# EAGLE library part AUDIO-TDA7439 (library Namenlos)
edit this description Auto generated by make-symbol-device-package-bsdl.ulp Rev. 44 Source:
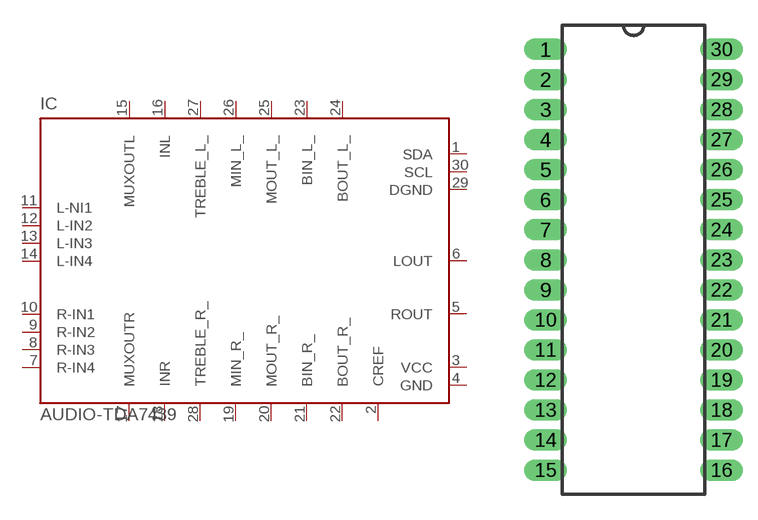
[diagram p14: symbol with the pads of SDIP30; footprint SDIP30]

Designator prefix IC

## AUDIO-TDA7439  [SDIP30]
1  SDA
2  CREF  sup
3  VCC  pwr
4  GND  pwr
5  ROUT  out
6  LOUT  out
7  R-IN4  in
8  R-IN3  in
9  R-IN2  in
10  R-IN1  in
11  L-NI1  in
12  L-IN2  in
13  L-IN3  in
14  L-IN4  in
15  MUXOUTL  out
16  INL  in
17  MUXOUTR  out
18  INR  in
19  MIN_R_  in
20  MOUT_R_  out
21  BIN_R_  in
22  BOUT_R_  out
23  BIN_L_  in
24  BOUT_L_  out
25  MOUT_L_  out
26  MIN_L_  in
27  TREBLE_L_  out
28  TREBLE_R_  out
29  DGND  sup
30  SCL

## Footprint SDIP30 (pad centres in mm)
SDIP30 Auto generated by make-symbol-device-package-bsdl.ulp Rev. 44
drill 0.5 pad 1.27 long: 1 -5.2,12.446; 2 -5.2,10.668; 3 -5.2,8.89; 4 -5.2,7.112; 5 -5.2,5.334; 6 -5.2,3.556; 7 -5.2,1.778; 8 -5.2,0; 9 -5.2,-1.778; 10 -5.2,-3.556; 11 -5.2,-5.334; 12 -5.2,-7.112; 13 -5.2,-8.89; 14 -5.2,-10.668; 15 -5.2,-12.446; 16 5.2,-12.446; 17 5.2,-10.668; 18 5.2,-8.89; 19 5.2,-7.112; 20 5.2,-5.334; 21 5.2,-3.556; 22 5.2,-1.778; 23 5.2,0; 24 5.2,1.778; 25 5.2,3.556; 26 5.2,5.334; 27 5.2,7.112; 28 5.2,8.89; 29 5.2,10.668; 30 5.2,12.446